# Altium schematic symbol library Capacitors.SchLib: 135 symbols (part 2 of 2)
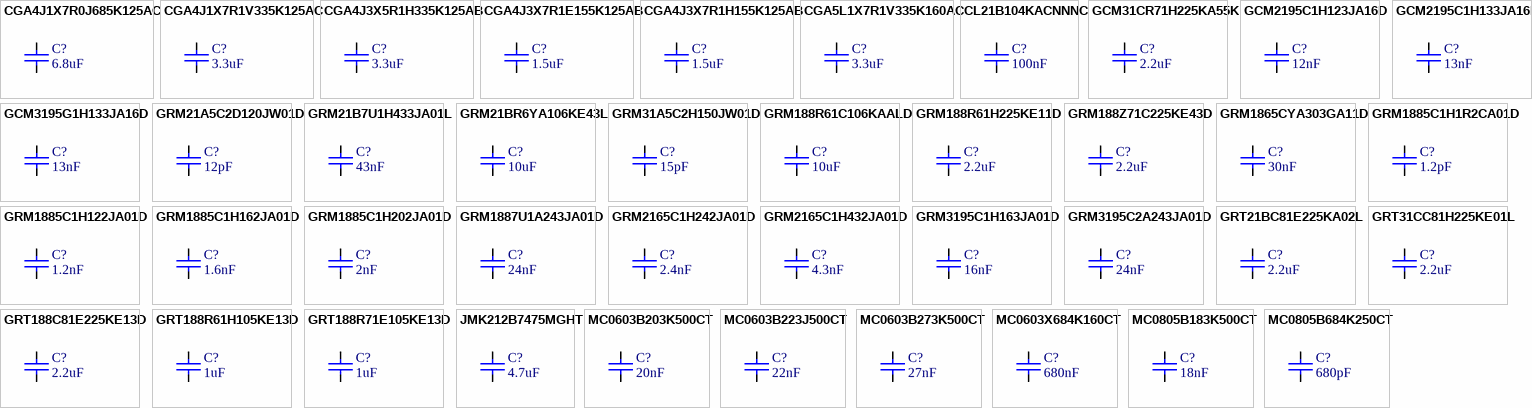
[diagram p4: symbols CGA4J1X7R0J685K125AC to MC0805B684K250CT]

## GCM2195C1H133JA16D
designator C?, comment 13nF
CAP MLCC, 13nF, 50V, 0805 [2012 Metric], ±5%, C0G / NP0; Manufacturer: Murata Electronics; Manufacturer Part Number: GCM2195C1H133JA16D; Value: 13nF; Package: 0805 [2012 Metric]; Supplier 1: Mouser; Supplier Part Number 1: 81-GCM2195C1H133JA6D; ComponentLink1Description: Datasheet; ComponentLink1URL: https://eu.mouser.com/datasheet/2/281/GCM2195C1H133JA16_01-1968110.pdf; Voltage: 50V; Tolerance: ± 5%; Dielectric: C0G / NP0; Mounting: SMD; Part Type: MLCC
footprint CAPC2012N (Chip Capacitor, Body 2.0x1.25mm, IPC Medium Density)
pins: 1, 2

## GCM3195G1H133JA16D
designator C?, comment 13nF
CAP MLCC, 13nF, 50V, 1206 [3216 Metric], ±5%, X8G; Manufacturer: Murata Electronics; Manufacturer Part Number: GCM3195G1H133JA16D; Value: 13nF; Package: 1206 [3216 Metric]; Supplier 1: Mouser; Supplier Part Number 1: 81-GCM3195G1H133JA6D; ComponentLink1Description: Datasheet; ComponentLink1URL: https://eu.mouser.com/datasheet/2/281/GCM3195G1H133JA16_01-1969102.pdf; Voltage: 50V; Tolerance: ± 5%; Dielectric: X8G; Mounting: SMD; Part Type: MLCC
footprint CAPC3216N (Chip Capacitor, Body 3.2x1.6mm, IPC Medium Density)
pins: 1, 2

## GRM21A5C2D120JW01D
designator C?, comment 12pF
CAP MLCC, 12pF, 200V, 0805 [2012 Metric], ±5%, C0G / NP0; Manufacturer: MURATA; Manufacturer Part Number: GRM21A5C2D120JW01D; Value: 12pF; Package: 0805 [2012 Metric]; Supplier 1: Farnell; Supplier Part Number 1: 3340789; ComponentLink1Description: Datasheet; ComponentLink1URL: http://www.farnell.com/datasheets/2891920.pdf; Voltage: 200V; Tolerance: ± 5%; Dielectric: C0G / NP0; Mounting: SMD; Part Type: MLCC
footprint CAPC2012N (Chip Capacitor, Body 2.0x1.25mm, IPC Medium Density)
pins: 1, 2

## GRM21B7U1H433JA01L
designator C?, comment 43nF
CAP MLCC, 43nF, 50V, 0805 [2012 Metric], ±5%, U2J; Manufacturer: Murata Electronics; Manufacturer Part Number: GRM21B7U1H433JA01L; Value: 43nF; Package: 0805 [2012 Metric]; Supplier 1: Mouser; Supplier Part Number 1: 81-GRM21B7U1H433JA1L; ComponentLink1Description: Datasheet; ComponentLink1URL: https://eu.mouser.com/datasheet/2/281/1/GRM21B7U1H433JA01_01A-1986752.pdf; Voltage: 50V; Tolerance: ± 5%; Dielectric: U2J; Mounting: SMD; Part Type: MLCC
footprint CAPC2012N (Chip Capacitor, Body 2.0x1.25mm, IPC Medium Density)
pins: 1, 2

## GRM21BR6YA106KE43L
designator C?, comment 10uF
CAP MLCC, 10uF, 35V, 0805 [2012 Metric], ±10%, X5R; Manufacturer: MURATA; Manufacturer Part Number: GRM21BR6YA106KE43L; Value: 10uF; Package: 0805 [2012 Metric]; Supplier 1: Farnell; Supplier Part Number 1: 2611943; ComponentLink1Description: Datasheet; ComponentLink1URL: https://4donline.ihs.com/images/VipMasterIC/IC/MURE/MURE-S-A0010852699/MURE-S-A0010564725-1.pdf?hkey=6D3A4C79FDBF58556ACFDE234799DDF0; Voltage: 35V; Tolerance: ± 10%; Dielectric: X5R; Mounting: SMD; Part Type: MLCC
footprint CAPC2012N (Chip Capacitor, Body 2.0x1.25mm, IPC Medium Density)
pins: 1, 2

## GRM31A5C2H150JW01D
designator C?, comment 15pF
CAP MLCC, 15pF, 25V, 1206 [3216 Metric], ±5%, C0G / NP0; Manufacturer: MURATA; Manufacturer Part Number: GRM31A5C2H150JW01D; Voltage: 500V; Value: 15pF; Package: 1206 [3216 Metric]; Supplier 1: Farnell; Supplier Part Number 1: 3340795; ComponentLink1Description: Datasheet; ComponentLink1URL: http://www.farnell.com/datasheets/2891925.pdf; Tolerance: ± 5%; Dielectric: C0G / NP0; Mounting: SMD; Part Type: MLCC
footprint CAPC3216N (Chip Capacitor, Body 3.2x1.6mm, IPC Medium Density)
pins: 1, 2

## GRM188R61C106KAALD
designator C?, comment 10uF
CAP MLCC, 10uF, 16V, 0603 [1608 Metric], ±10%, X5R; Manufacturer: MURATA; Manufacturer Part Number: GRM188R61C106KAALD; Value: 10uF; Package: 0603 [1608 Metric]; Supplier 1: Farnell; Supplier Part Number 1: 2611923; ComponentLink1Description: Datasheet; ComponentLink1URL: https://4donline.ihs.com/images/VipMasterIC/IC/MURE/MURE-S-A0004349797/MURE-S-A0004352506-1.pdf?hkey=6D3A4C79FDBF58556ACFDE234799DDF0; Voltage: 16V; Tolerance: ± 10%; Dielectric: X5R; Mounting: SMD; Part Type: MLCC
footprint CAPC1608N (Chip Capacitor, Body 1.6x0.8mm, Height 0.55mm, IPC Medium Density)
pins: 1, 2

## GRM188R61H225KE11D
designator C?, comment 2.2uF
CAP MLCC, 2.2uF, 50V, 0603 [1608 Metric], ± 10%, X5R; Manufacturer: MURATA; Manufacturer Part Number: GRM188R61H225KE11D; Value: 2.2uF; Package: 0603 [1608 Metric]; Supplier 1: Farnell; Supplier Part Number 1: 2611925; ComponentLink1Description: Datasheet; ComponentLink1URL: https://4donline.ihs.com/images/VipMasterIC/IC/MURE/MURE-S-A0010852699/MURE-S-A0010564447-1.pdf?hkey=6D3A4C79FDBF58556ACFDE234799DDF0; Voltage: 50V; Tolerance: ± 10%; Dielectric: X5R; Mounting: SMD; Part Type: MLCC
footprint CAPC1608N (Chip Capacitor, Body 1.6x0.8mm, Height 0.55mm, IPC Medium Density)
pins: 1, 2

## GRM188Z71C225KE43D
designator C?, comment 2.2uF
CAP MLCC, 2.2uF, 16V, 0603 [1608 Metric], ±10%, X7R; Manufacturer: MURATA; Manufacturer Part Number: GRM188Z71C225KE43D; Value: 2.2uF; Package: 0603 [1608 Metric]; Supplier 1: Farnell; Supplier Part Number 1: 3581383; ComponentLink1Description: Datasheet; ComponentLink1URL: https://4donline.ihs.com/images/VipMasterIC/IC/MURE/MURE-S-A0010565743/MURE-S-A0010565293-1.pdf?hkey=6D3A4C79FDBF58556ACFDE234799DDF0; Voltage: 16V; Tolerance: ± 10%; Dielectric: X7R; Mounting: SMD; Part Type: MLCC
footprint CAPC1608N (Chip Capacitor, Body 1.6x0.8mm, Height 0.55mm, IPC Medium Density)
pins: 1, 2

## GRM1865CYA303GA11D
designator C?, comment 30nF
CAP MLCC, 30nF, 35V, 0603 [1608 metric], ±2%, C0G / NP0; Manufacturer: Murata Electronics; Manufacturer Part Number: GRM1865CYA303GA11D; Value: 30nF; Package: 0603 [1608 Metric]; Supplier 1: Mouser; Supplier Part Number 1: 81-GRM1865CYA303GA1D; ComponentLink1Description: Datasheet; ComponentLink1URL: https://eu.mouser.com/datasheet/2/281/murata_03052018_GRM_Series_1-1310166.pdf; Voltage: 35V; Tolerance: ± 2%; Dielectric: C0G / NP0; Mounting: SMD; Part Type: MLCC
footprint CAPC1608N (Chip Capacitor, Body 1.6x0.8mm, Height 0.55mm, IPC Medium Density)
pins: 1, 2

## GRM1885C1H1R2CA01D
designator C?, comment 1.2pF
CAP MLCC, 1.2pF, 50V, 0603 [1608 Metric], ±0.25pF, C0G / NP0; Manufacturer: MULTICOMP; Manufacturer Part Number: GRM1885C1H1R2CA01D; Value: 1.2pF; Package: 0603 [1608 Metric]; Supplier 1: Farnell; Supplier Part Number 1: 2494217; ComponentLink1Description: Datasheet; ComponentLink1URL: http://www.farnell.com/datasheets/1955666.pdf; Voltage: 50V; Tolerance: ± 0.25pF; Dielectric: C0G / NP0; Mounting: SMD; Part Type: MLCC
footprint CAPC1608N (Chip Capacitor, Body 1.6x0.8mm, Height 0.55mm, IPC Medium Density)
pins: 1, 2

## GRM1885C1H122JA01D
designator C?, comment 1.2nF
CAP MLCC, 1.2nF, 50V, 0603 [1608 Metric], ±5%, C0G / NP0; Manufacturer: MURATA; Manufacturer Part Number: GRM1885C1H122JA01D; Value: 1.2nF; Package: 0603 [1608 Metric]; Supplier 1: Farnell; Supplier Part Number 1: 2688627; ComponentLink1Description: Datasheet; ComponentLink1URL: http://www.farnell.com/datasheets/2191627.pdf; Voltage: 50V; Tolerance: ± 5%; Dielectric: C0G / NP0; Mounting: SMD; Part Type: MLCC
footprint CAPC1608N (Chip Capacitor, Body 1.6x0.8mm, Height 0.55mm, IPC Medium Density)
pins: 1, 2

## GRM1885C1H162JA01D
designator C?, comment 1.6nF
CAP MLCC, 1.6nF, 50V, 0603 [1608 Metric], ±5%, C0G / NP0; Manufacturer: MURATA; Manufacturer Part Number: GRM1885C1H162JA01D; Value: 1.6nF; Package: 0603 [1608 Metric]; Supplier 1: Farnell; Supplier Part Number 1: 3582826; ComponentLink1Description: Datasheet; ComponentLink1URL: https://4donline.ihs.com/images/VipMasterIC/IC/MURE/MURE-S-A0010570236/MURE-S-A0010570623-1.pdf?hkey=6D3A4C79FDBF58556ACFDE234799DDF0; Voltage: 50V; Tolerance: ± 5%; Dielectric: C0G / NP0; Mounting: SMD; Part Type: MLCC
footprint CAPC1608N (Chip Capacitor, Body 1.6x0.8mm, Height 0.55mm, IPC Medium Density)
pins: 1, 2

## GRM1885C1H202JA01D
designator C?, comment 2nF
CAP MLCC, 2nF, 50V, 0603 [1608 Metric], ±5%, C0G / NP0; Manufacturer: MURATA; Manufacturer Part Number: GRM1885C1H202JA01D; Value: 2nF; Package: 0603 [1608 Metric]; Supplier 1: Farnell; Supplier Part Number 1: 2470480; ComponentLink1Description: Datasheet; ComponentLink1URL: http://www.farnell.com/datasheets/2048060.pdf; Voltage: 50V; Tolerance: ± 5%; Dielectric: C0G / NP0; Mounting: SMD; Part Type: MLCC
footprint CAPC1608N (Chip Capacitor, Body 1.6x0.8mm, Height 0.55mm, IPC Medium Density)
pins: 1, 2

## GRM1887U1A243JA01D
designator C?, comment 24nF
CAP MLCC, 24nF, 100V, 0603 [1608 Metric], ±5%, U2J; Manufacturer: Murata Electronics; Manufacturer Part Number: GRM1887U1A243JA01D; Voltage: 10V; Value: 24nF; Package: 0603 [1608 Metric]; Supplier 1: Mouser; Supplier Part Number 1: 81-GRM1887U1A243JA1D; ComponentLink1Description: Datasheet; ComponentLink1URL: https://eu.mouser.com/datasheet/2/281/1/GRM1887U1A243JA01_01A-1985605.pdf; Tolerance: ± 5%; Dielectric: U2J; Mounting: SMD; Part Type: MLCC
footprint CAPC1608N (Chip Capacitor, Body 1.6x0.8mm, Height 0.55mm, IPC Medium Density)
pins: 1, 2

## GRM2165C1H242JA01D
designator C?, comment 2.4nF
CAP MLCC, 2.4nF, 50V, 0805 [2012 Metric], ±5%, C0G / NP0; Manufacturer: MURATA; Manufacturer Part Number: GRM2165C1H242JA01D; Value: 2.4nF; Package: 0805 [2012 Metric]; Supplier 1: Farnell; Supplier Part Number 1: 3581385; ComponentLink1Description: Datasheet; ComponentLink1URL: https://4donline.ihs.com/images/VipMasterIC/IC/MURE/MURE-S-A0010583317/MURE-S-A0010584295-1.pdf?hkey=6D3A4C79FDBF58556ACFDE234799DDF0; Voltage: 50V; Tolerance: ± 5%; Dielectric: C0G / NP0; Mounting: SMD; Part Type: MLCC
footprint CAPC2012N (Chip Capacitor, Body 2.0x1.25mm, IPC Medium Density)
pins: 1, 2

## GRM2165C1H432JA01D
designator C?, comment 4.3nF
CAP MLCC, 4.3nF, 250V, 0805 [2012 Metric], ±5%, C0G / NP0; Manufacturer: MURATA; Manufacturer Part Number: GRM2165C1H432JA01D; Voltage: 50V; Value: 4.3nF; Package: 0805 [2012 Metric]; Supplier 1: Farnell; Supplier Part Number 1: 3581388; ComponentLink1Description: Datasheet; ComponentLink1URL: https://4donline.ihs.com/images/VipMasterIC/IC/MURE/MURE-S-A0010861478/MURE-S-A0010860847-1.pdf?hkey=6D3A4C79FDBF58556ACFDE234799DDF0; Tolerance: ± 5%; Dielectric: C0G / NP0; Mounting: SMD; Part Type: MLCC
footprint CAPC2012N (Chip Capacitor, Body 2.0x1.25mm, IPC Medium Density)
pins: 1, 2

## GRM3195C1H163JA01D
designator C?, comment 16nF
CAP MLCC, 16nF, 50V, 1206 [3216 metric], ±5%, C0G / NP0; Manufacturer: Murata Electronics; Manufacturer Part Number: GRM3195C1H163JA01D; Value: 16nF; Package: 1206 [3216 Metric]; Supplier 1: Mouser; Supplier Part Number 1: 81-GRM3195C1H163JA1D; ComponentLink1Description: Datasheet; ComponentLink1URL: https://eu.mouser.com/datasheet/2/281/1/GRM3195C1H163JA01_01A-1987134.pdf; Voltage: 50V; Tolerance: ± 5%; Dielectric: C0G / NP0; Part Type: MLCC; Mounting: SMD
footprint CAPC3216N (Chip Capacitor, Body 3.2x1.6mm, IPC Medium Density)
pins: 1, 2

## GRM3195C2A243JA01D
designator C?, comment 24nF
CAP MLCC, 24nF, 100V, 1206 [3216 Metric], ± 5%, C0G / NP0; Manufacturer: Murata; Manufacturer Part Number: GRM3195C2A243JA01D; Value: 24nF; Package: 1206 [3216 Metric]; Supplier 1: Mouser; Supplier Part Number 1: 81-GRM3195C2A243JA1D; ComponentLink1Description: Datasheet; ComponentLink1URL: https://eu.mouser.com/datasheet/2/281/1/GRM3195C2A243JA01_01A-1987123.pdf; Voltage: 100V; Tolerance: ± 5%; Dielectric: C0G / NP0; Mounting: SMD; Part Type: MLCC
footprint CAPC3216N (Chip Capacitor, Body 3.2x1.6mm, IPC Medium Density)
pins: 1, 2

## GRT21BC81E225KA02L
designator C?, comment 2.2uF
CAP MLCC, 2.2uF, 25V, 0805 [2012 Metric], ±10%, X6S; Manufacturer: MURATA; Manufacturer Part Number: GRT21BC81E225KA02L; Value: 2.2uF; Package: 0805 [2012 Metric]; Supplier 1: Farnell; Supplier Part Number 1: 2672181; ComponentLink1Description: Datasheet; ComponentLink1URL: http://www.farnell.com/datasheets/2165980.pdf; Voltage: 25V; Tolerance: ± 10%; Dielectric: X6S; Mounting: SMD; Part Type: MLCC
footprint CAPC2012N (Chip Capacitor, Body 2.0x1.25mm, IPC Medium Density)
pins: 1, 2

## GRT31CC81H225KE01L
designator C?, comment 2.2uF
CAP MLCC, 2.2uF, 50V, 1206 [3216 Metric], ±10%, X6S; Manufacturer: MURATA; Manufacturer Part Number: GRT31CC81H225KE01L; Value: 2.2uF; Package: 1206 [3216 Metric]; Supplier 1: Farnell; Supplier Part Number 1: 2672206; ComponentLink1Description: Datasheet; ComponentLink1URL: http://www.farnell.com/datasheets/2166004.pdf; Voltage: 50V; Tolerance: ± 10%; Dielectric: X6S; Mounting: SMD; Part Type: MLCC
footprint CAPC3216N (Chip Capacitor, Body 3.2x1.6mm, IPC Medium Density)
pins: 1, 2

## GRT188C81E225KE13D
designator C?, comment 2.2uF
CAP MLCC, 2.2uF, 25V, 0603 [1608 Metric], ±10%, X6S; Manufacturer: MURATA; Manufacturer Part Number: GRT188C81E225KE13D; Value: 2.2uF; Package: 0603 [1608 Metric]; Supplier 1: Farnell; Supplier Part Number 1: 2672150; ComponentLink1Description: Datasheet; ComponentLink1URL: http://www.farnell.com/datasheets/2165949.pdf; Voltage: 25V; Tolerance: ± 10%; Dielectric: X6S; Mounting: SMD; Part Type: MLCC
footprint CAPC1608N (Chip Capacitor, Body 1.6x0.8mm, Height 0.55mm, IPC Medium Density)
pins: 1, 2

## GRT188R61H105KE13D
designator C?, comment 1uF
CAP MLCC, 1uF, 50V, 0603 [1608 Metric], ±10%, X5R; Manufacturer: MURATA; Manufacturer Part Number: GRT188R61H105KE13D; Value: 1uF; Package: 0603 [1608 Metric]; Supplier 1: Farnell; Supplier Part Number 1: 3581821; ComponentLink1Description: Datasheet; ComponentLink1URL: https://4donline.ihs.com/images/VipMasterIC/IC/MURE/MURE-S-A0010859401/MURE-S-A0010860617-1.pdf?hkey=6D3A4C79FDBF58556ACFDE234799DDF0; Voltage: 50V; Tolerance: ± 10%; Dielectric: X5R; Mounting: SMD; Part Type: MLCC
footprint CAPC1608N (Chip Capacitor, Body 1.6x0.8mm, Height 0.55mm, IPC Medium Density)
pins: 1, 2

## GRT188R71E105KE13D
designator C?, comment 1uF
CAP MLCC, 1uF, 25V, 0603 [1608 Metric], ±10%, X7R; Manufacturer: Murata; Manufacturer Part Number: GRT188R71E105KE13D; Value: 1uF; Package: 0603 [1608 Metric]; Supplier 1: Farnell; Supplier Part Number 1: 2672163; ComponentLink1Description: Datasheet; ComponentLink1URL: https://4donline.ihs.com/images/VipMasterIC/IC/MURE/MURE-S-A0010854894/MURE-S-A0010852229-1.pdf?hkey=6D3A4C79FDBF58556ACFDE234799DDF0; Voltage: 25V; Tolerance: ± 10%; Dielectric: X7R; Mounting: SMD; Part Type: MLCC
footprint CAPC1608N (Chip Capacitor, Body 1.6x0.8mm, Height 0.55mm, IPC Medium Density)
pins: 1, 2

## JMK212B7475MGHT
designator C?, comment 4.7uF
CAP MLCC, 4.7uF, 6.3V, 0805 [2012 Metric], ±20%, X7R; Manufacturer: Taiyo Yuden; Manufacturer Part Number: JMK212B7475MGHT; Value: 4.7uF; Package: 0805 [2012 Metric]; Supplier 1: Mouser; Supplier Part Number 1: 963-JMK212B7475MGHT; ComponentLink1Description: Datasheet; ComponentLink1URL: https://eu.mouser.com/datasheet/2/396/Taiyo_Yuden_JMK212B7475MGHT_SS-1841473.pdf; Voltage: 6.3V; Tolerance: ± 20%; Dielectric: X7R; Mounting: SMD; Part Type: MLCC
footprint CAPC2012N (Chip Capacitor, Body 2.0x1.25mm, IPC Medium Density)
pins: 1, 2

## MC0603B203K500CT
designator C?, comment 20nF
CAP MLCC, 20nF, 50V, 0603 [1608 Metric], ±10%, X7R; Manufacturer: MULTICOMP PRO; Manufacturer Part Number: MC0603B203K500CT; Value: 20nF; Package: 0603 [1608 Metric]; Supplier 1: Farnell; Supplier Part Number 1: 2627435; ComponentLink1Description: Datasheet; ComponentLink1URL: http://www.farnell.com/datasheets/2861120.pdf; Voltage: 50V; Tolerance: ± 10%; Dielectric: X7R; Mounting: SMD; Part Type: MLCC
footprint CAPC1608N (Chip Capacitor, Body 1.6x0.8mm, Height 0.55mm, IPC Medium Density)
pins: 1, 2

## MC0603B223J500CT
designator C?, comment 22nF
CAP MLCC, 22nF, 50V, 0603 [1608 Metric], ±5%, X7R; Manufacturer: MULTICOMP PRO; Manufacturer Part Number: MC0603B223J500CT; Value: 22nF; Package: 0603 [1608 Metric]; Supplier 1: Farnell; Supplier Part Number 1: 2627436; ComponentLink1Description: Datasheet; ComponentLink1URL: http://www.farnell.com/datasheets/2861120.pdf; Voltage: 50V; Tolerance: ± 5%; Dielectric: X7R; Mounting: SMD; Part Type: MLCC
footprint CAPC1608N (Chip Capacitor, Body 1.6x0.8mm, Height 0.55mm, IPC Medium Density)
pins: 1, 2

## MC0603B273K500CT
designator C?, comment 27nF
CAP MLCC, 27nF, 50V, 0603 [1608 Metric], ±10%, X7R; Manufacturer: MULTICOMP PRO; Manufacturer Part Number: MC0603B273K500CT; Value: 27nF; Package: 0603 [1608 Metric]; Supplier 1: Farnell; Supplier Part Number 1: 1759111; ComponentLink1Description: Datasheet; ComponentLink1URL: http://www.farnell.com/datasheets/2860632.pdf; Voltage: 50V; Tolerance: ± 10%; Dielectric: X7R; Mounting: SMD; Part Type: MLCC
footprint CAPC1608N (Chip Capacitor, Body 1.6x0.8mm, Height 0.55mm, IPC Medium Density)
pins: 1, 2

## MC0603X684K160CT
designator C?, comment 680nF
CAP MLCC, 680nF, 16V, 0603 [1608 Metric], ±10%, X5R; Manufacturer: MULTICOMP PRO; Manufacturer Part Number: MC0603X684K160CT; Value: 680nF; Package: 0603 [1608 Metric]; Supplier 1: Farnell; Supplier Part Number 1: 2665946; ComponentLink1Description: Datasheet; ComponentLink1URL: http://www.farnell.com/datasheets/2860632.pdf; Voltage: 16V; Tolerance: ± 10%; Dielectric: X5R; Mounting: SMD; Part Type: MLCC
footprint CAPC1608N (Chip Capacitor, Body 1.6x0.8mm, Height 0.55mm, IPC Medium Density)
pins: 1, 2

## MC0805B183K500CT
designator C?, comment 18nF
CAP MLCC, 18nF, 50V, 0805 [2012 Metric], ±10%, X7R; Manufacturer: MULTICOMP PRO; Manufacturer Part Number: MC0805B183K500CT; Value: 18nF; Package: 0805 [2012 Metric]; Supplier 1: Farnell; Supplier Part Number 1: 1759251; ComponentLink1Description: Datasheet; ComponentLink1URL: http://www.farnell.com/datasheets/1870456.pdf; Voltage: 50V; Tolerance: ± 10%; Dielectric: X7R; Mounting: SMD; Part Type: MLCC
footprint CAPC2012N (Chip Capacitor, Body 2.0x1.25mm, IPC Medium Density)
pins: 1, 2

## MC0805B684K250CT
designator C?, comment 680pF
CAP MLCC, 680nF, 25V, 0805 [2012 Metric], ±10%, X7R; Manufacturer: MULTICOMP PRO; Manufacturer Part Number: MC0805B684K250CT; Value: 680pF; Package: 0805 [2012 Metric]; Supplier 1: Farnell; Supplier Part Number 1: 2627483; ComponentLink1Description: Datasheet; ComponentLink1URL: http://www.farnell.com/datasheets/2861120.pdf; Voltage: 25V; Tolerance: ± 10%; Dielectric: X7R; Mounting: SMD; Part Type: MLCC
footprint CAPC2012N (Chip Capacitor, Body 2.0x1.25mm, IPC Medium Density)
pins: 1, 2

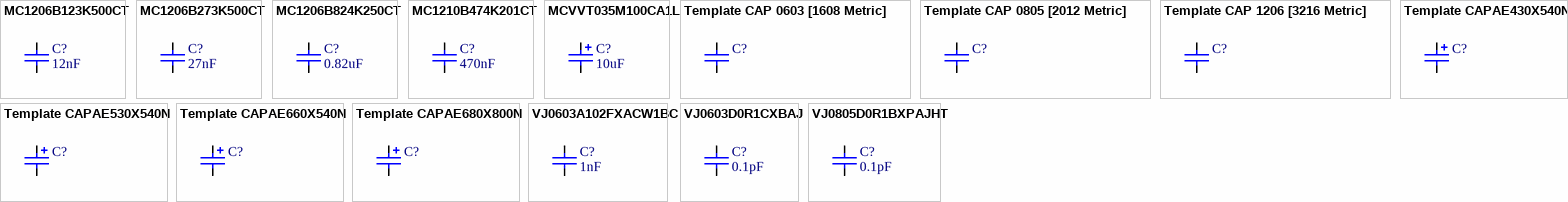
[diagram p3: symbols MC1206B123K500CT to VJ0805D0R1BXPAJHT]

## MC1206B123K500CT
designator C?, comment 12nF
CAP MLCC, 12nF, 50V, 1206 [3216 Metric], ±10%, X7R; Manufacturer: MULTICOMP PRO; Manufacturer Part Number: MC1206B123K500CT; Value: 12nF; Package: 1206 [3216 Metric]; Supplier 1: Farnell; Supplier Part Number 1: 1759351; ComponentLink1Description: Datasheet; ComponentLink1URL: http://www.farnell.com/datasheets/2860632.pdf; Voltage: 50V; Tolerance: ± 10%; Dielectric: X7R; Mounting: SMD; Part Type: MLCC
footprint CAPC3216N (Chip Capacitor, Body 3.2x1.6mm, IPC Medium Density)
pins: 1, 2

## MC1206B273K500CT
designator C?, comment 27nF
CAP MLCC, 27nF, 50V, 1206 [3216 Metric], ±10%, X7R; Manufacturer: MULTICOMP PRO; Manufacturer Part Number: MC1206B273K500CT; Value: 27nF; Package: 1206 [3216 Metric]; Supplier 1: Farnell; Supplier Part Number 1: 1759355; ComponentLink1Description: Datasheet; ComponentLink1URL: http://www.farnell.com/datasheets/2860632.pdf; Voltage: 50V; Tolerance: ± 10%; Dielectric: X7R; Mounting: SMD; Part Type: MLCC
footprint CAPC3216N (Chip Capacitor, Body 3.2x1.6mm, IPC Medium Density)
pins: 1, 2

## MC1206B824K250CT
designator C?, comment 0.82uF
CAP MLCC, 0.82uF, 25V, 1206 [3216 Metric], ±10%, X7R; Manufacturer: MULTICOMP PRO; Manufacturer Part Number: MC1206B824K250CT; Value: 0.82uF; Package: 1206 [3216 Metric]; Supplier 1: Farnell; Supplier Part Number 1: 1759326; ComponentLink1Description: Datasheet; ComponentLink1URL: http://www.farnell.com/datasheets/2860632.pdf; Voltage: 25V; Tolerance: ± 10%; Dielectric: X7R; Mounting: SMD; Part Type: MLCC
footprint CAPC3216N (Chip Capacitor, Body 3.2x1.6mm, IPC Medium Density)
pins: 1, 2

## MC1210B474K201CT
designator C?, comment 470nF
CAP MLCC, 470nF, 200V, 0805 [2012 Metric], ±10%, X7R; Manufacturer: MULTICOMP PRO; Manufacturer Part Number: MC1210B474K201CT; Value: 470nF; Package: 0805 [2012 Metric]; Supplier 1: Farnell; Supplier Part Number 1: 1855950; ComponentLink1URL: http://www.farnell.com/datasheets/2861119.pdf; Voltage: 200V; Tolerance: ± 10%; Dielectric: X7R; Mounting: SMD; Part Type: MLCC; ComponentLink1Description: Datasheet
footprint CAPC2012N (Chip Capacitor, Body 2.0x1.25mm, IPC Medium Density)
pins: 1, 2

## MCVVT035M100CA1L
designator C?, comment 10uF
CAP Aluminium Electrolytic, 10uF, 35V, 4.3mm L x 4.3mm W x W 5.4mm H; Manufacturer: MULTICOMP PRO; Manufacturer Part Number: MCVVT035M100CA1L; Value: 10uF; Package: 4.3mm L x 4.3mm W x W 5.4mm H; Supplier 1: Farnell; Supplier Part Number 1: 2611379; ComponentLink1Description: Datasheet; ComponentLink1URL: http://www.farnell.com/datasheets/2873546.pdf; Voltage: 35V; Dielectric: Aluminium; Mounting: SMD; Part Type: Electrolytic
footprint CAPAE430X540N (Capacitor, Aluminium Electrolytric, 4.3mm L X 4.3mm W X 5.4mm H, IPC Medium Density)
pins: 1, 2

## Template CAP 0603 [1608 Metric]
designator C?
CAP MLCC, 100nF, 25V, 0603 [1608 Metric], ±10%, X7R; Package: 0603 [1608 Metric]; ComponentLink1Description: Datasheet; Mounting: SMD; Part Type: MLCC
footprint CAPC1608N (Chip Capacitor, Body 1.6x0.8mm, Height 0.55mm, IPC Medium Density)
pins: 1, 2

## Template CAP 0805 [2012 Metric]
designator C?
CAP MLCC, 100nF, 25V, 0805 [2012 Metric], ±10%, X7R; Package: 0805 [2012 Metric]; ComponentLink1Description: Datasheet; Mounting: SMD; Part Type: MLCC
footprint CAPC2012N (Chip Capacitor, Body 2.0x1.25mm, IPC Medium Density)
pins: 1, 2

## Template CAP 1206 [3216 Metric]
designator C?
CAP MLCC, 100nF, 25V, 1206 [3216 Metric], ±10%, X7R; Package: 1206 [3216 Metric]; ComponentLink1Description: Datasheet; Mounting: SMD; Part Type: MLCC
footprint CAPC3216N (Chip Capacitor, Body 3.2x1.6mm, IPC Medium Density)
pins: 1, 2

## Template CAPAE430X540N
designator C?
CAP Aluminium Electrolytic, 10uF, 35V, 4.3mm L x 4.3mm W x W 5.4mm H; Package: 4.3mm L x 4.3mm W x W 5.4mm H; ComponentLink1Description: Datasheet; Dielectric: Aluminium; Mounting: SMD; Part Type: Electrolytic
footprint CAPAE430X540N (Capacitor, Aluminium Electrolytric, 4.3mm L X 4.3mm W X 5.4mm H, IPC Medium Density)
pins: 1, 2

## Template CAPAE530X540N
designator C?
CAP Aluminium Electrolytic, 10uF, 35V, 5.3mm L X 5.3mm W X 5.4mm H; Package: 5.3mm L X 5.3mm W X 5.4mm H; ComponentLink1Description: Datasheet; Dielectric: Aluminium; Mounting: SMD; Part Type: Electrolytic
footprint CAPAE530X540N (Capacitor, Aluminium Electrolytric, 5.3mm L X 5.3mm W X 5.4mm H, IPC Medium Density)
pins: 1, 2

## Template CAPAE660X540N
designator C?
CAP Aluminium Electrolytic, 10uF, 35V, 6.6mm L X 6.6mm W X 5.4mm H; Package: 6.6mm L X 6.6mm W X 5.4mm H; ComponentLink1Description: Datasheet; Dielectric: Aluminium; Mounting: SMD; Part Type: Electrolytic
footprint CAPAE660X540N (Capacitor, Aluminium Electrolytric, 6.6mm L X 6.6mm W X 5.4mm H, IPC Medium Density)
pins: 1, 2

## Template CAPAE680X800N
designator C?
CAP Aluminium Electrolytic, 10uF, 35V, 6.8mm L X 6.8mm W X 8mm H; Package: 6.8mm L X 6.8mm W X 8mm H; ComponentLink1Description: Datasheet; Dielectric: Aluminium; Mounting: SMD; Part Type: Electrolytic
footprint CAPAE680X800N (Capacitor, Aluminium Electrolytric, 6.8mm L X 6.8mm W X 8mm H, IPC Medium Density)
pins: 1, 2

## VJ0603A102FXACW1BC
designator C?, comment 1nF
CAP MLCC, 1nF, 50V, 0603 [1608 metric], ±1%, C0G / NP0; Manufacturer: VISHAY; Manufacturer Part Number: VJ0603A102FXACW1BC; Value: 1nF; Package: 0603 [1608 metric]; Supplier 1: Farnell; Supplier Part Number 1: 2896361; ComponentLink1Description: Datasheet; ComponentLink1URL: http://www.farnell.com/datasheets/2620235.pdf; Voltage: 50V; Tolerance: ± 1%; Dielectric: C0G / NP0; Mounting: SMD; Part Type: MLCC
footprint CAPC1608N (Chip Capacitor, Body 1.6x0.8mm, Height 0.55mm, IPC Medium Density)
pins: 1, 2

## VJ0603D0R1CXBAJ
designator C?, comment 0.1pF
CAP MLCC, 0.1pF, 100V, 0603 [1608 Metric], ±0.25pF, C0G / NP0; Manufacturer: Vishay / Vitramon; Manufacturer Part Number: VJ0603D0R1CXBAJ; Value: 0.1pF; Supplier 1: Mouser; Supplier Part Number 1: 77-VJ0603D0R1CXBAJ; Tolerance: ± 0.25pF; Voltage: 100V; Package: 0603 [1608 Metric]; Part Type: MLCC; ComponentLink1Description: Datasheet; ComponentLink1URL: https://eu.mouser.com/datasheet/2/427/vjhifreq-1391225.pdf; Mounting: SMD; Dielectric: C0G / NP0
footprint CAPC1608N (Chip Capacitor, Body 1.6x0.8mm, Height 0.55mm, IPC Medium Density)
pins: 1, 2
1 alternate drawing of the same symbol

## VJ0805D0R1BXPAJHT
designator C?, comment 0.1pF
CAP MLCC, 0.1pF, 200V, 0805 [2012 Metric], ±0.1pF, C0G / NP0; Manufacturer: Vishay / Vitramon; Manufacturer Part Number: VJ0805D0R1BXPAJHT; Voltage: 250V; Value: 0.1pF; Supplier 1: Mouser; Supplier Part Number 1: 77-VJ0805D0R1BXPAJHT; Tolerance: ± 0.1pF; Package: 0805 [2012 Metric]; Part Type: MLCC; ComponentLink1Description: Datasheet; ComponentLink1URL: https://eu.mouser.com/datasheet/2/427/vjhifreqht-1128230.pdf; Mounting: SMD; Dielectric: C0G / NP0
footprint CAPC2012N (Chip Capacitor, Body 2.0x1.25mm, IPC Medium Density)
pins: 1, 2
1 alternate drawing of the same symbol